# Altium footprint library Capacitor_Tantalum_SMD.PcbLib: 56 footprints (part 4 of 4)
Each footprint in its own frame and in the unit in brackets; x right, y up, seen from the top. Pads: shape width x height; smd on the part's side, far side on the other; paste and mask are expansions set on the pad; w line width, h text height; cw(c..) or ccw(c..) is an arc to the next point about the centre after c.
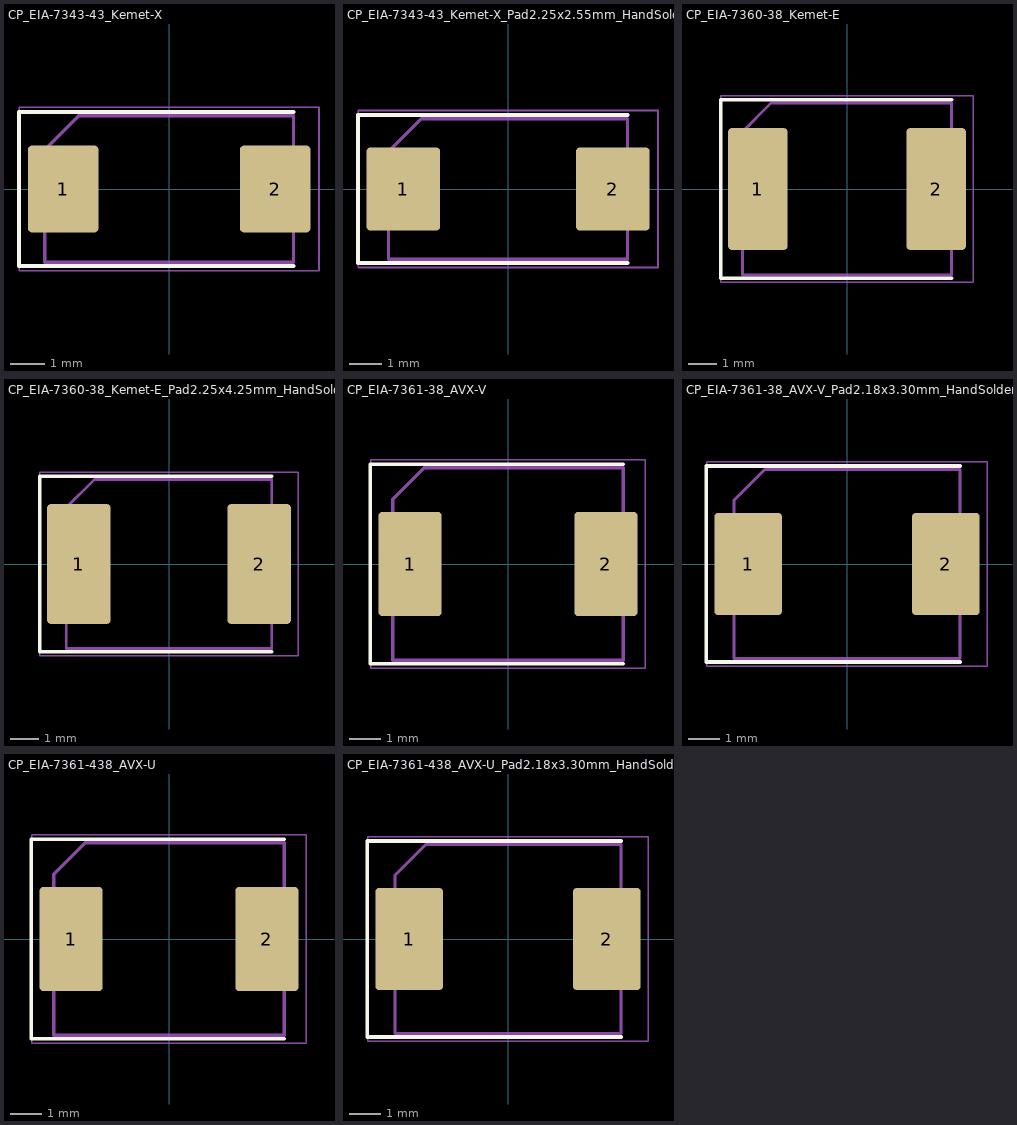
[diagram p3: the footprints below, top view; thin cyan lines are the x and y axes]

## CP_EIA-7343-43_Kemet-X [mm]
pads (2):
  rrect12% 2.075x2.55 smd: 1(-3.113,0) 2(3.113,0)
F.SilkS:
  lines w0.12: 3.65,-2.26 -4.41,-2.26 -4.41,2.26 3.65,2.26
F.CrtYd:
  lines w0.05: -4.4,-2.4 -4.4,2.4 4.4,2.4 4.4,-2.4 -4.4,-2.4
F.Fab:
  lines w0.1: -3.65,-2.15 3.65,-2.15 3.65,2.15 -2.65,2.15 -3.65,1.15 -3.65,-2.15
  text "'.Designator'" at -4.047,-0.84 h1

## CP_EIA-7343-43_Kemet-X_Pad2.25x2.55mm_HandSolder [mm]
pads (2):
  rrect11% 2.25x2.55 smd: 1(-3.2,0) 2(3.2,0)
F.SilkS:
  lines w0.12: 3.65,-2.26 -4.585,-2.26 -4.585,2.26 3.65,2.26
F.CrtYd:
  lines w0.05: -4.58,-2.4 4.58,-2.4 4.58,2.4 -4.58,2.4 -4.58,-2.4
F.Fab:
  lines w0.1: -3.65,-2.15 3.65,-2.15 3.65,2.15 -2.65,2.15 -3.65,1.15 -3.65,-2.15
  text "'.Designator'" at -4.047,-0.84 h1

## CP_EIA-7360-38_Kemet-E [mm]
pads (2):
  rrect12% 2.075x4.25 smd: 1(-3.113,0) 2(3.113,0)
F.SilkS:
  lines w0.12: 3.65,-3.11 -4.41,-3.11 -4.41,3.11 3.65,3.11
F.CrtYd:
  lines w0.05: -4.4,-3.25 4.4,-3.25 4.4,3.25 -4.4,3.25 -4.4,-3.25
F.Fab:
  lines w0.1: -3.65,-3 -3.65,2 -2.65,3 3.65,3 3.65,-3 -3.65,-3
  text "'.Designator'" at -4.047,-0.84 h1

## CP_EIA-7360-38_Kemet-E_Pad2.25x4.25mm_HandSolder [mm]
pads (2):
  rrect11% 2.25x4.25 smd: 1(-3.2,0) 2(3.2,0)
F.SilkS:
  lines w0.12: 3.65,-3.11 -4.585,-3.11 -4.585,3.11 3.65,3.11
F.CrtYd:
  lines w0.05: -4.58,-3.25 4.58,-3.25 4.58,3.25 -4.58,3.25 -4.58,-3.25
F.Fab:
  lines w0.1: -3.65,-3 3.65,-3 3.65,3 -2.65,3 -3.65,2 -3.65,-3
  text "'.Designator'" at -4.047,-0.84 h1

## CP_EIA-7361-38_AVX-V [mm]
pads (2):
  rrect12% 2x3.3 smd: 1(-3.1,0) 2(3.1,0)
F.SilkS:
  lines w0.12: 3.65,-3.16 -4.36,-3.16 -4.36,3.16 3.65,3.16
F.CrtYd:
  lines w0.05: -4.35,-3.3 -4.35,3.3 4.35,3.3 4.35,-3.3 -4.35,-3.3
F.Fab:
  lines w0.1: -3.65,-3.05 3.65,-3.05 3.65,3.05 -2.65,3.05 -3.65,2.05 -3.65,-3.05
  text "'.Designator'" at -4.047,-0.84 h1

## CP_EIA-7361-38_AVX-V_Pad2.18x3.30mm_HandSolder [mm]
pads (2):
  rrect11% 2.175x3.3 smd: 1(-3.187,0) 2(3.187,0)
F.SilkS:
  lines w0.12: 3.65,-3.16 -4.535,-3.16 -4.535,3.16 3.65,3.16
F.CrtYd:
  lines w0.05: -4.52,-3.3 -4.52,3.3 4.52,3.3 4.52,-3.3 -4.52,-3.3
F.Fab:
  lines w0.1: -3.65,-3.05 -3.65,2.05 -2.65,3.05 3.65,3.05 3.65,-3.05 -3.65,-3.05
  text "'.Designator'" at -4.047,-0.84 h1

## CP_EIA-7361-438_AVX-U [mm]
pads (2):
  rrect12% 2x3.3 smd: 1(-3.1,0) 2(3.1,0)
F.SilkS:
  lines w0.12: 3.65,-3.16 -4.36,-3.16 -4.36,3.16 3.65,3.16
F.CrtYd:
  lines w0.05: -4.35,-3.3 -4.35,3.3 4.35,3.3 4.35,-3.3 -4.35,-3.3
F.Fab:
  lines w0.1: -3.65,-3.05 -3.65,2.05 -2.65,3.05 3.65,3.05 3.65,-3.05 -3.65,-3.05
  text "'.Designator'" at -4.047,-0.84 h1

## CP_EIA-7361-438_AVX-U_Pad2.18x3.30mm_HandSolder [mm]
pads (2):
  rrect11% 2.175x3.3 smd: 1(-3.187,0) 2(3.187,0)
F.SilkS:
  lines w0.12: 3.65,-3.16 -4.535,-3.16 -4.535,3.16 3.65,3.16
F.CrtYd:
  lines w0.05: -4.52,-3.3 -4.52,3.3 4.52,3.3 4.52,-3.3 -4.52,-3.3
F.Fab:
  lines w0.1: -3.65,-3.05 -3.65,2.05 -2.65,3.05 3.65,3.05 3.65,-3.05 -3.65,-3.05
  text "'.Designator'" at -4.047,-0.84 h1